# EAGLE library part TPL0102 (library texas)
DIGIPOT 100KOHM 256TP
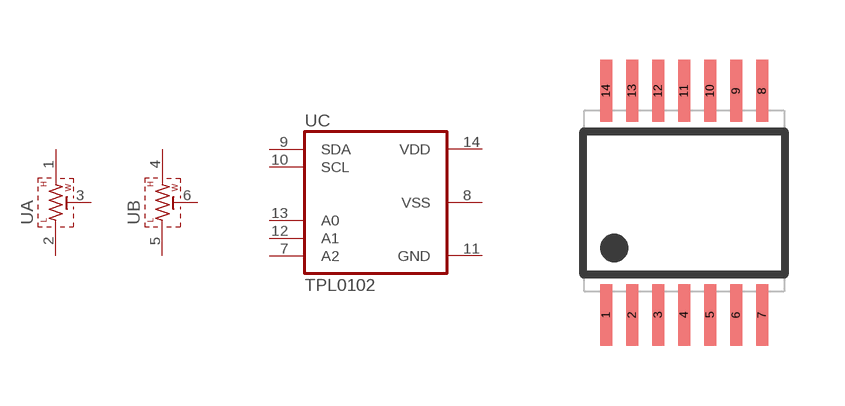
[diagram p133: symbol with the pads of TSSOP14; footprint TSSOP14]

Designator prefix U; gates C=TPL0102 A=DIGI-POT-HWL B=DIGI-POT-HWL

## TPL0102  [TSSOP14]
1  A:H  pas
2  A:L  pas
3  A:W  pas
4  B:H  pas
5  B:L  pas
6  B:W  pas
7  C:A2  in
8  C:VSS  pwr
9  C:SDA
10  C:SCL  in
11  C:GND  pwr
12  C:A1  in
13  C:A0  in
14  C:VDD  pwr

## Footprint TSSOP14 (pad centres in mm)
Thin Shrink Small Outline Plastic 14
smd 0.3 x 1.55: 1 -1.95,-2.8; 2 -1.3,-2.8; 3 -0.65,-2.8; 4 0,-2.8; 5 0.65,-2.8; 6 1.3,-2.8; 7 1.95,-2.8; 8 1.95,2.8; 9 1.3,2.8; 10 0.65,2.8; 11 0,2.8; 12 -0.65,2.8; 13 -1.3,2.8; 14 -1.95,2.8